# Altium footprint library adafruit.PCBLIB: 624 footprints (part 9 of 39)
Each footprint in its own frame and in the unit in brackets; x right, y up, seen from the top. Pads: shape width x height; smd on the part's side, far side on the other; paste and mask are expansions set on the pad; w line width, h text height; cw(c..) or ccw(c..) is an arc to the next point about the centre after c.
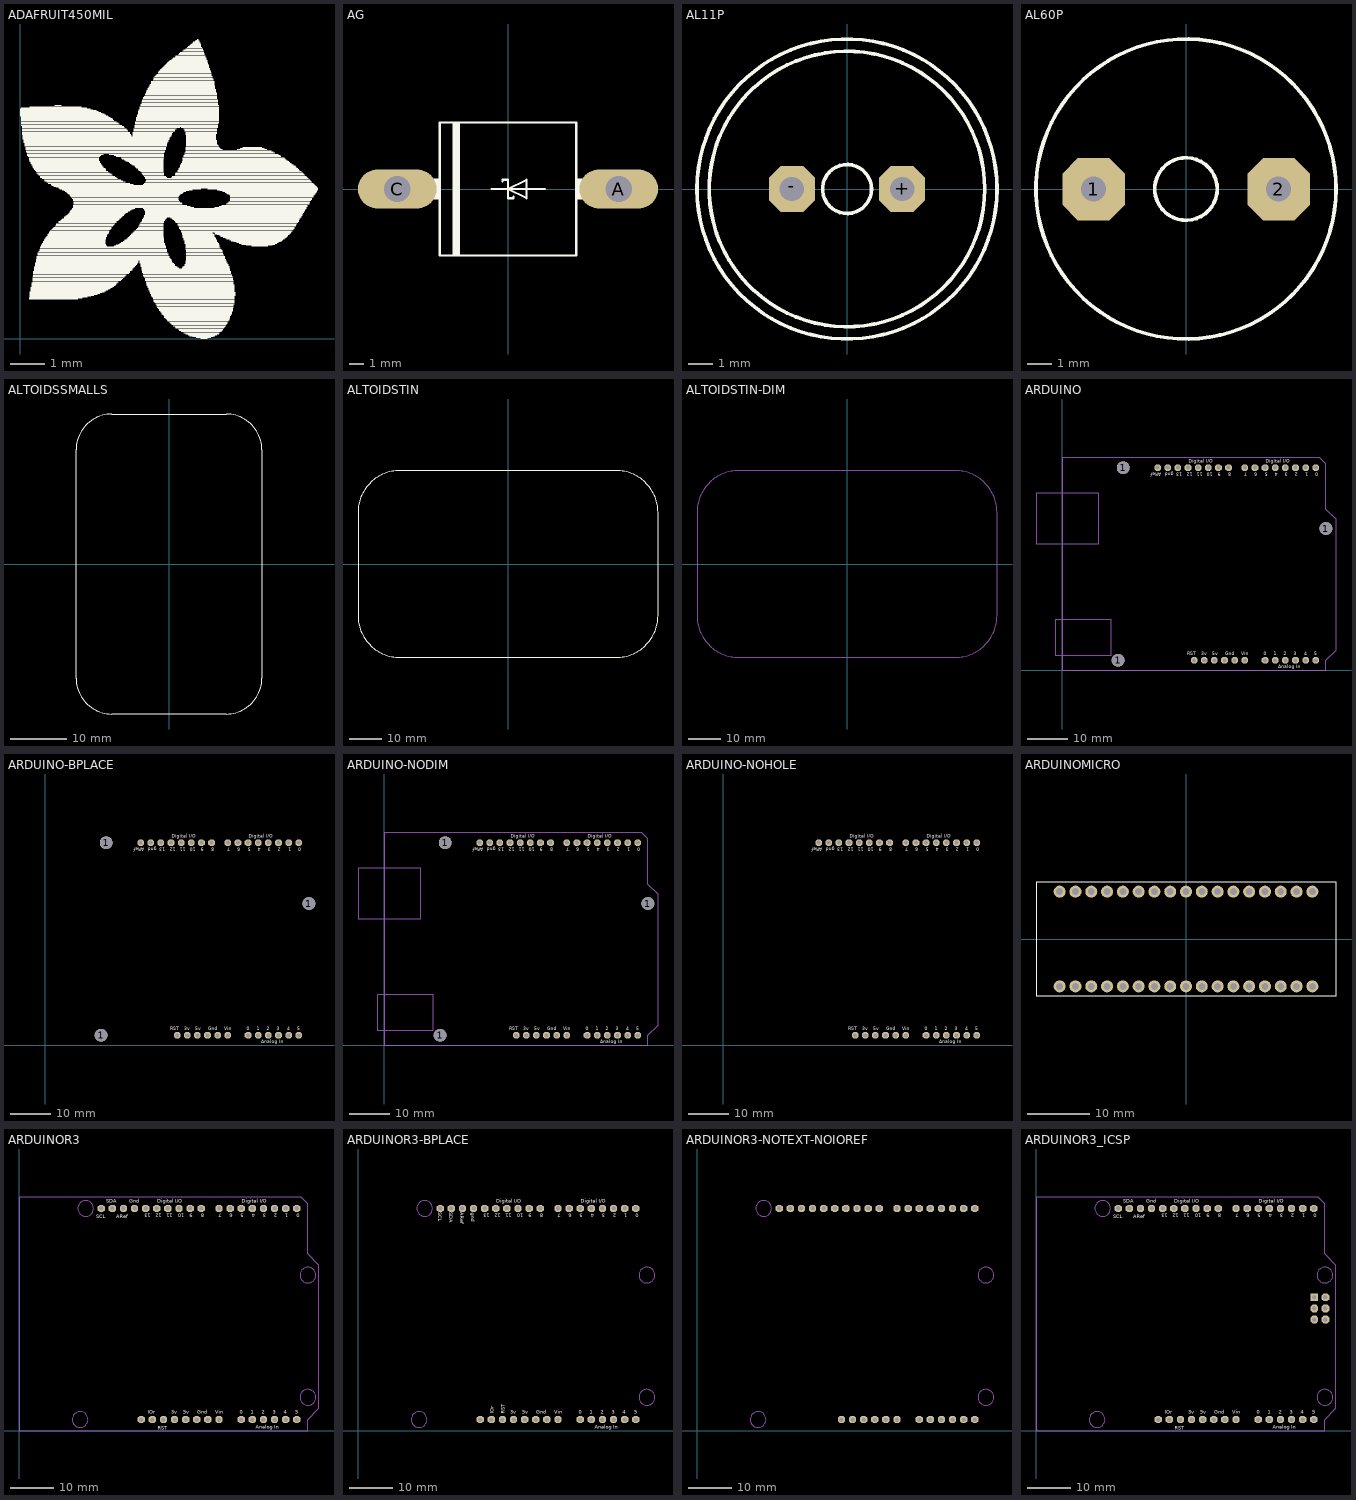
[diagram p8: the footprints below, top view; thin cyan lines are the x and y axes]

## ADAFRUIT450MIL [mil]
Top Overlay:
  drawing of 2202 lines, arcs and shapes, not listed

## AG [mil]
pads (2):
  oval 213x106.5 hole 71: A(300,0) C(-300,0)
Top Overlay:
  rectangle: -150,-180 -130,180
  rectangle: 185,-28 221,28
  rectangle: -221,-28 -185,28
  lines w6: -45,0 0,0 ; -15,20 -15,25 0,25 0,0 ; 15,-20 15,-25 0,-25 0,0 ; 100,0 0,0 ; 0,0 50,25 50,-25 0,0 ; -185,-180 -185,180 185,180 185,-180 -185,-180
Mechanical 16:
  lines w58: -300,0 -230,0 ; 230,0 300,0

## AL11P [mil]
pads (2):
  oct 75x75 hole 40: +(90,0) -(-90,0)
Top Overlay:
  circle w6: c0,0 r225
  circle w6: c0,0 r245
  circle w6: c0,0 r40

## AL60P [mil]
pads (2):
  oct 100x100 hole 40: 1(-148,0) 2(148,0)
Top Overlay:
  circle w6: c0,0 r240
  circle w6: c0,0 r50

## ALTOIDSSMALLS [mil]
Top Overlay:
  lines w0: -650,-800 ccw(c-400,-800) -400,-1050 400,-1050 ccw(c400,-800) 650,-800 650,800 ccw(c400,800) 400,1050 -400,1050 ccw(c-400,800) -650,800 -650,-800

## ALTOIDSTIN [mil]
Top Overlay:
  lines w5: -1800,-620 -1800,620 cw(c-1300,620) -1300,1120 1300,1120 cw(c1300,620) 1800,620 1800,-620 cw(c1300,-620) 1300,-1120 -1300,-1120 cw(c-1300,-620) -1800,-620

## ALTOIDSTIN-DIM [mil]
Mechanical 1:
  lines w5: -1800,-620 -1800,620 cw(c-1300,620) -1300,1120 1300,1120 cw(c1300,620) 1800,620 1800,-620 cw(c1300,-620) 1300,-1120 -1300,-1120 cw(c-1300,-620) -1800,-620

## ARDUINO [mil]
pads (31):
  round 126 hole 126: 1(550,100) 1(600,2000) 1(2600,1400)
  oct 66x66 hole 40: 3V(1400,100) 5V(1500,100) A0(2000,100) A1(2100,100) A2(2200,100) A3(2300,100) A4(2400,100) A5(2500,100) AREF(940,2000) D0(2500,2000) D1(2400,2000) D2(2300,2000) D3(2200,2000) D4(2100,2000) D5(2000,2000) D6(1900,2000) D7(1800,2000) D8(1640,2000) D9(1540,2000) D10(1440,2000) D11(1340,2000) D12(1240,2000) D13(1140,2000) GND(1040,2000) GND1(1700,100) GND2(1600,100) RESET(1300,100) VIN(1800,100)
Top Overlay:
  text "RST" at 1230,150 h34
  text "3v" at 1369,150 h34
  text "5v" at 1479,150 h34
  text "Gnd" at 1606,150 h34
  text "Vin" at 1764,150 h34
  text "Analog In" at 2131,19 h34
  text "0" at 1985,150 h34
  text "1" at 2085,150 h34
  text "2" at 2185,150 h34
  text "3" at 2285,150 h34
  text "4" at 2385,150 h34
  text "5" at 2485,150 h34
  text "ARef" at 975,1950 h34
  text "gnd" at 1100,1950 h34
  text "13" at 1185,1950 h34
  text "12" at 1285,1950 h34
  text "11" at 1385,1950 h34
  text "10" at 1485,1950 h34
  text "9" at 1565,1950 h34
  text "8" at 1665,1950 h34
  text "7" at 1825,1950 h34
  text "6" at 1925,1950 h34
  text "5" at 2025,1950 h34
  text "4" at 2125,1950 h34
  text "3" at 2225,1950 h34
  text "2" at 2325,1950 h34
  text "1" at 2425,1950 h34
  text "0" at 2525,1950 h34
  text "Digital I/O" at 1245,2050 h34
  text "Digital I/O" at 2005,2050 h34
Mechanical 1:
  lines w0: 0,0 2600,0 2600,100 2700,200 2700,1490 2600,1590 2600,2040 2540,2100 0,2100 0,0
Mechanical 30:
  lines w0: -260,1250 -260,1750 360,1750 360,1250 -260,1250 ; -70,150 480,150 480,500 -70,500 -70,150

## ARDUINO-BPLACE [mil]
pads (31):
  round 126 hole 126: 1(550,100) 1(600,2000) 1(2600,1400)
  oct 66x66 hole 40: 3V(1400,100) 5V(1500,100) A0(2000,100) A1(2100,100) A2(2200,100) A3(2300,100) A4(2400,100) A5(2500,100) AREF(940,2000) D0(2500,2000) D1(2400,2000) D2(2300,2000) D3(2200,2000) D4(2100,2000) D5(2000,2000) D6(1900,2000) D7(1800,2000) D8(1640,2000) D9(1540,2000) D10(1440,2000) D11(1340,2000) D12(1240,2000) D13(1140,2000) GND(1040,2000) GND1(1700,100) GND2(1600,100) RESET(1300,100) VIN(1800,100)
Top Overlay:
  text "RST" at 1230,150 h34
  text "3v" at 1369,150 h34
  text "5v" at 1479,150 h34
  text "Gnd" at 1606,150 h34
  text "Vin" at 1764,150 h34
  text "Analog In" at 2131,19 h34
  text "0" at 1985,150 h34
  text "1" at 2085,150 h34
  text "2" at 2185,150 h34
  text "3" at 2285,150 h34
  text "4" at 2385,150 h34
  text "5" at 2485,150 h34
  text "ARef" at 975,1950 h34
  text "gnd" at 1100,1950 h34
  text "13" at 1185,1950 h34
  text "12" at 1285,1950 h34
  text "11" at 1385,1950 h34
  text "10" at 1485,1950 h34
  text "9" at 1565,1950 h34
  text "8" at 1665,1950 h34
  text "7" at 1825,1950 h34
  text "6" at 1925,1950 h34
  text "5" at 2025,1950 h34
  text "4" at 2125,1950 h34
  text "3" at 2225,1950 h34
  text "2" at 2325,1950 h34
  text "1" at 2425,1950 h34
  text "0" at 2525,1950 h34
  text "Digital I/O" at 1245,2050 h34
  text "Digital I/O" at 2005,2050 h34
Bottom Overlay:
  lines w0: -260,1250 -260,1750 360,1750 360,1250 -260,1250 ; -70,150 480,150 480,500 -70,500 -70,150 ; 0,0 2600,0 2600,100 2700,200 2700,1490 2600,1590 2600,2040 2540,2100 0,2100 0,0

## ARDUINO-NODIM [mil]
pads (31):
  round 126 hole 126: 1(550,100) 1(600,2000) 1(2600,1400)
  oct 66x66 hole 40: 3V(1400,100) 5V(1500,100) A0(2000,100) A1(2100,100) A2(2200,100) A3(2300,100) A4(2400,100) A5(2500,100) AREF(940,2000) D0(2500,2000) D1(2400,2000) D2(2300,2000) D3(2200,2000) D4(2100,2000) D5(2000,2000) D6(1900,2000) D7(1800,2000) D8(1640,2000) D9(1540,2000) D10(1440,2000) D11(1340,2000) D12(1240,2000) D13(1140,2000) GND(1040,2000) GND1(1700,100) GND2(1600,100) RESET(1300,100) VIN(1800,100)
Top Overlay:
  text "RST" at 1230,150 h34
  text "3v" at 1369,150 h34
  text "5v" at 1479,150 h34
  text "Gnd" at 1606,150 h34
  text "Vin" at 1764,150 h34
  text "Analog In" at 2131,19 h34
  text "0" at 1985,150 h34
  text "1" at 2085,150 h34
  text "2" at 2185,150 h34
  text "3" at 2285,150 h34
  text "4" at 2385,150 h34
  text "5" at 2485,150 h34
  text "ARef" at 975,1950 h34
  text "gnd" at 1100,1950 h34
  text "13" at 1185,1950 h34
  text "12" at 1285,1950 h34
  text "11" at 1385,1950 h34
  text "10" at 1485,1950 h34
  text "9" at 1565,1950 h34
  text "8" at 1665,1950 h34
  text "7" at 1825,1950 h34
  text "6" at 1925,1950 h34
  text "5" at 2025,1950 h34
  text "4" at 2125,1950 h34
  text "3" at 2225,1950 h34
  text "2" at 2325,1950 h34
  text "1" at 2425,1950 h34
  text "0" at 2525,1950 h34
  text "Digital I/O" at 1245,2050 h34
  text "Digital I/O" at 2005,2050 h34
Mechanical 30:
  lines w0: -260,1250 -260,1750 360,1750 360,1250 -260,1250 ; -70,150 480,150 480,500 -70,500 -70,150 ; 0,0 2600,0 2600,100 2700,200 2700,1490 2600,1590 2600,2040 2540,2100 0,2100 0,0

## ARDUINO-NOHOLE [mil]
pads (28):
  oct 66x66 hole 40: 3V(1400,100) 5V(1500,100) A0(2000,100) A1(2100,100) A2(2200,100) A3(2300,100) A4(2400,100) A5(2500,100) AREF(940,2000) D0(2500,2000) D1(2400,2000) D2(2300,2000) D3(2200,2000) D4(2100,2000) D5(2000,2000) D6(1900,2000) D7(1800,2000) D8(1640,2000) D9(1540,2000) D10(1440,2000) D11(1340,2000) D12(1240,2000) D13(1140,2000) GND(1040,2000) GND1(1700,100) GND2(1600,100) RESET(1300,100) VIN(1800,100)
Top Overlay:
  text "RST" at 1230,150 h34
  text "3v" at 1369,150 h34
  text "5v" at 1479,150 h34
  text "Gnd" at 1606,150 h34
  text "Vin" at 1764,150 h34
  text "Analog In" at 2131,19 h34
  text "0" at 1985,150 h34
  text "1" at 2085,150 h34
  text "2" at 2185,150 h34
  text "3" at 2285,150 h34
  text "4" at 2385,150 h34
  text "5" at 2485,150 h34
  text "ARef" at 975,1950 h34
  text "gnd" at 1100,1950 h34
  text "13" at 1185,1950 h34
  text "12" at 1285,1950 h34
  text "11" at 1385,1950 h34
  text "10" at 1485,1950 h34
  text "9" at 1565,1950 h34
  text "8" at 1665,1950 h34
  text "7" at 1825,1950 h34
  text "6" at 1925,1950 h34
  text "5" at 2025,1950 h34
  text "4" at 2125,1950 h34
  text "3" at 2225,1950 h34
  text "2" at 2325,1950 h34
  text "1" at 2425,1950 h34
  text "0" at 2525,1950 h34
  text "Digital I/O" at 1245,2050 h34
  text "Digital I/O" at 2005,2050 h34
Bottom Overlay:
  lines w0: -260,1250 -260,1750 360,1750 360,1250 -260,1250 ; -70,150 480,150 480,500 -70,500 -70,150 ; 0,0 2600,0 2600,100 2700,200 2700,1490 2600,1590 2600,2040 2540,2100 0,2100 0,0

## ARDUINOMICRO [mil]
pads (34):
  round 76 hole 44: P$1(-800,300) P$2(-700,300) P$3(-600,300) P$4(-500,300) P$5(-400,300) P$6(-300,300) P$7(-200,300) P$8(-100,300) P$9(0,300) P$10(100,300) P$11(200,300) P$12(500,-300) P$13(400,-300) P$14(500,300) P$15(600,300) P$16(700,300) P$17(800,300) P$18(800,-300) P$19(700,-300) P$20(600,-300) P$21(300,300) P$22(400,300) P$23(300,-300) P$24(200,-300) P$25(100,-300) P$26(0,-300) P$27(-100,-300) P$28(-200,-300) P$29(-300,-300) P$30(-400,-300) P$31(-500,-300) P$32(-600,-300) P$33(-700,-300) P$34(-800,-300)
Top Overlay:
  lines w5: -950,-360 950,-360 950,360 -950,360 -950,-360

## ARDUINOR3 [mil]
pads (32):
  oct 66x66 hole 40: 3V(1400,100) 5V(1500,100) A0(2000,100) A1(2100,100) A2(2200,100) A3(2300,100) A4(2400,100) A5(2500,100) AREF(940,2000) D0(2500,2000) D1(2400,2000) D2(2300,2000) D3(2200,2000) D4(2100,2000) D5(2000,2000) D6(1900,2000) D7(1800,2000) D8(1640,2000) D9(1540,2000) D10(1440,2000) D11(1340,2000) D12(1240,2000) D13(1140,2000) GND(1040,2000) GND1(1700,100) GND2(1600,100) IOREF(1200,100) RESERVED(1100,100) RESET(1300,100) SCL(740,2000) SDA(840,2000) VIN(1800,100)
Top Overlay:
  text "RST" at 1250,10 h34
  text "3v" at 1369,150 h34
  text "5v" at 1479,150 h34
  text "Gnd" at 1606,150 h34
  text "Vin" at 1764,150 h34
  text "Analog In" at 2131,19 h34
  text "0" at 1985,150 h34
  text "1" at 2085,150 h34
  text "2" at 2185,150 h34
  text "3" at 2285,150 h34
  text "4" at 2385,150 h34
  text "5" at 2485,150 h34
  text "ARef" at 875,1910 h34
  text "Gnd" at 990,2050 h34
  text "13" at 1185,1950 h34
  text "12" at 1285,1950 h34
  text "11" at 1385,1950 h34
  text "10" at 1485,1950 h34
  text "9" at 1565,1950 h34
  text "8" at 1665,1950 h34
  text "7" at 1825,1950 h34
  text "6" at 1925,1950 h34
  text "5" at 2025,1950 h34
  text "4" at 2125,1950 h34
  text "3" at 2225,1950 h34
  text "2" at 2325,1950 h34
  text "1" at 2425,1950 h34
  text "0" at 2525,1950 h34
  text "Digital I/O" at 1245,2050 h34
  text "Digital I/O" at 2005,2050 h34
  text "SCL" at 695,1910 h34
  text "SDA" at 785,2050 h34
  text "IOr" at 1160,150 h34
Mechanical 1:
  lines w0: 0,0 2600,0 2600,100 2700,200 2700,1490 2600,1590 2600,2040 2540,2100 0,2100 0,0
Mechanical 16:
  circle w5: c600,2000 r71
  circle w5: c550,100 r71
  circle w5: c2600,1400 r71
  circle w5: c2600,300 r71

## ARDUINOR3-BPLACE [mil]
pads (32):
  oct 66x66 hole 40: 3V(1400,100) 5V(1500,100) A0(2000,100) A1(2100,100) A2(2200,100) A3(2300,100) A4(2400,100) A5(2500,100) AREF(940,2000) D0(2500,2000) D1(2400,2000) D2(2300,2000) D3(2200,2000) D4(2100,2000) D5(2000,2000) D6(1900,2000) D7(1800,2000) D8(1640,2000) D9(1540,2000) D10(1440,2000) D11(1340,2000) D12(1240,2000) D13(1140,2000) GND(1040,2000) GND1(1700,100) GND2(1600,100) IOREF(1200,100) RESERVED(1100,100) RESET(1300,100) SCL(740,2000) SDA(840,2000) VIN(1800,100)
Top Overlay:
  text "RST" at 1320,150 h34
  text "3v" at 1369,150 h34
  text "5v" at 1479,150 h34
  text "Gnd" at 1606,150 h34
  text "Vin" at 1764,150 h34
  text "Analog In" at 2131,19 h34
  text "0" at 1985,150 h34
  text "1" at 2085,150 h34
  text "2" at 2185,150 h34
  text "3" at 2285,150 h34
  text "4" at 2385,150 h34
  text "5" at 2485,150 h34
  text "ARef" at 920,1965 h34
  text "gnd" at 1020,1960 h34
  text "13" at 1185,1950 h34
  text "12" at 1285,1950 h34
  text "11" at 1385,1950 h34
  text "10" at 1485,1950 h34
  text "9" at 1565,1950 h34
  text "8" at 1665,1950 h34
  text "7" at 1825,1950 h34
  text "6" at 1925,1950 h34
  text "5" at 2025,1950 h34
  text "4" at 2125,1950 h34
  text "3" at 2225,1950 h34
  text "2" at 2325,1950 h34
  text "1" at 2425,1950 h34
  text "0" at 2525,1950 h34
  text "Digital I/O" at 1245,2050 h34
  text "Digital I/O" at 2005,2050 h34
  text "SCL" at 720,1965 h34
  text "SDA" at 820,1965 h34
  text "IOr" at 1220,150 h34
Bottom Overlay:
  lines w0: 0,0 2600,0 2600,100 2700,200 2700,1490 2600,1590 2600,2040 2540,2100 0,2100 0,0
Mechanical 16:
  circle w5: c600,2000 r71
  circle w5: c550,100 r71
  circle w5: c2600,1400 r71
  circle w5: c2600,300 r71

## ARDUINOR3-NOTEXT-NOIOREF [mil]
pads (30):
  oct 66x66 hole 40: 3V(1400,100) 5V(1500,100) A0(2000,100) A1(2100,100) A2(2200,100) A3(2300,100) A4(2400,100) A5(2500,100) AREF(940,2000) D0(2500,2000) D1(2400,2000) D2(2300,2000) D3(2200,2000) D4(2100,2000) D5(2000,2000) D6(1900,2000) D7(1800,2000) D8(1640,2000) D9(1540,2000) D10(1440,2000) D11(1340,2000) D12(1240,2000) D13(1140,2000) GND(1040,2000) GND1(1700,100) GND2(1600,100) RESET(1300,100) SCL(740,2000) SDA(840,2000) VIN(1800,100)
Bottom Overlay:
  lines w0: 0,0 2600,0 2600,100 2700,200 2700,1490 2600,1590 2600,2040 2540,2100 0,2100 0,0
Mechanical 16:
  circle w5: c600,2000 r71
  circle w5: c550,100 r71
  circle w5: c2600,1400 r71
  circle w5: c2600,300 r71

## ARDUINOR3_ICSP [mil]
pads (38):
  oct 66x66 hole 40: 3V(1400,100) 5V(1500,100) A0(2000,100) A1(2100,100) A2(2200,100) A3(2300,100) A4(2400,100) A5(2500,100) AREF(940,2000) D0(2500,2000) D1(2400,2000) D2(2300,2000) D3(2200,2000) D4(2100,2000) D5(2000,2000) D6(1900,2000) D7(1800,2000) D8(1640,2000) D9(1540,2000) D10(1440,2000) D11(1340,2000) D12(1240,2000) D13(1140,2000) GND(1040,2000) GND@1(1700,100) GND@2(1600,100) IOREF(1200,100) RESERVED(1100,100) RESET(1300,100) SCL(740,2000) SDA(840,2000) VIN(1800,100)
  oct 70x70 hole 40: 5V_ICSP(2605,1200) GND@3(2605,1000) MOSI(2605,1100) RESET_ICSP(2505,1000) SCK(2505,1100)
  rect 70x70 hole 40: MISO(2505,1200)
Top Overlay:
  text "RST" at 1250,10 h34
  text "3v" at 1369,150 h34
  text "5v" at 1479,150 h34
  text "Gnd" at 1606,150 h34
  text "Vin" at 1764,150 h34
  text "Analog In" at 2131,19 h34
  text "0" at 1985,150 h34
  text "1" at 2085,150 h34
  text "2" at 2185,150 h34
  text "3" at 2285,150 h34
  text "4" at 2385,150 h34
  text "5" at 2485,150 h34
  text "ARef" at 875,1910 h34
  text "Gnd" at 990,2050 h34
  text "13" at 1185,1950 h34
  text "12" at 1285,1950 h34
  text "11" at 1385,1950 h34
  text "10" at 1485,1950 h34
  text "9" at 1565,1950 h34
  text "8" at 1665,1950 h34
  text "7" at 1825,1950 h34
  text "6" at 1925,1950 h34
  text "5" at 2025,1950 h34
  text "4" at 2125,1950 h34
  text "3" at 2225,1950 h34
  text "2" at 2325,1950 h34
  text "1" at 2425,1950 h34
  text "0" at 2525,1950 h34
  text "Digital I/O" at 1245,2050 h34
  text "Digital I/O" at 2005,2050 h34
  text "SCL" at 695,1910 h34
  text "SDA" at 785,2050 h34
  text "IOr" at 1160,150 h34
Mechanical 1:
  lines w0: 0,0 2600,0 2600,100 2700,200 2700,1490 2600,1590 2600,2040 2540,2100 0,2100 0,0
Mechanical 9:
  region: 0,0 10,0 10,10 0,10
Mechanical 16:
  circle w5: c600,2000 r71
  circle w5: c550,100 r71
  circle w5: c2600,1400 r71
  circle w5: c2600,300 r71